# Altium footprint library WM355-Altium.PcbLib: 20 footprints (part 1 of 2)
Each footprint in its own frame and in the unit in brackets; x right, y up, seen from the top. Pads: shape width x height; smd on the part's side, far side on the other; paste and mask are expansions set on the pad; w line width, h text height; cw(c..) or ccw(c..) is an arc to the next point about the centre after c.
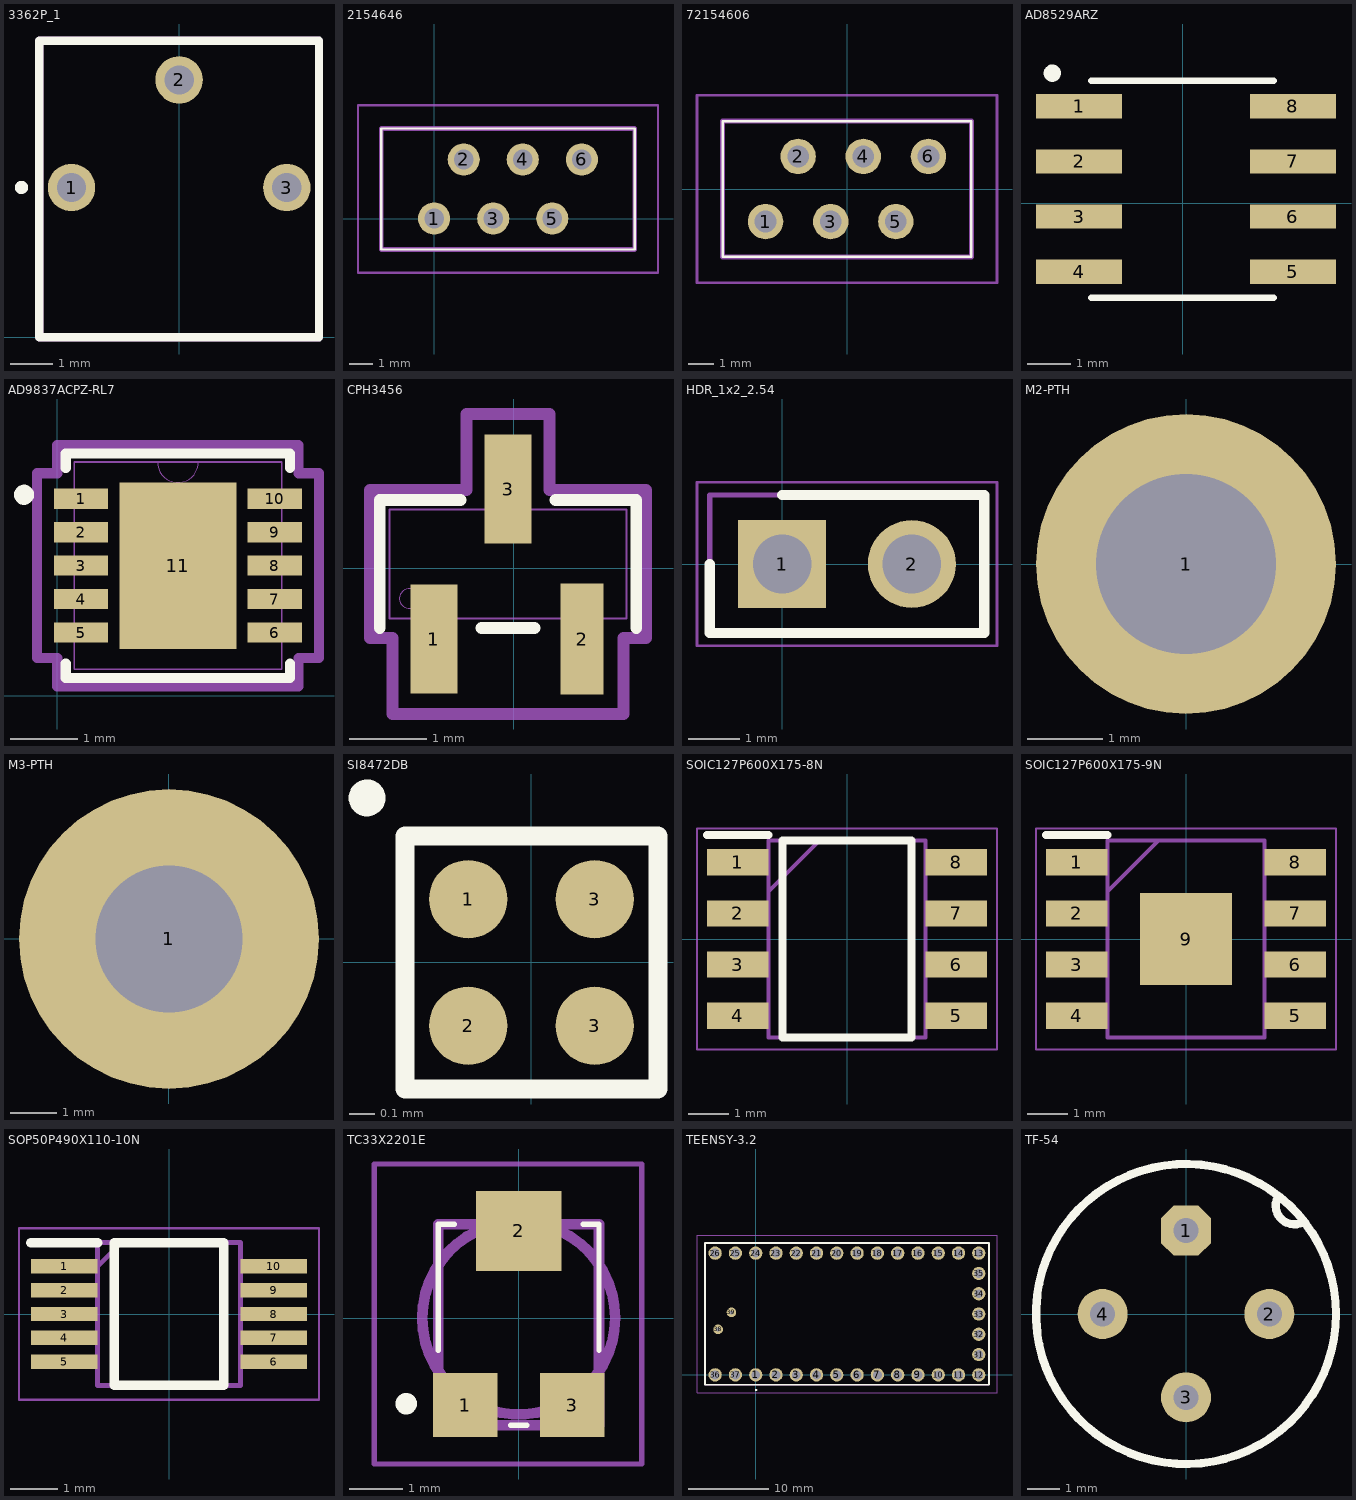
[diagram p0: the footprints below, top view; thin cyan lines are the x and y axes]

## 3362P_1 [mm]
pads (3):
  round 1.12 hole 0.69: 1(-2.54,3.53) 2(0,6.07) 3(2.54,3.53)
Top Overlay:
  circle w0.2: c-3.722,3.532 r0.057
  lines w0.2: -3.3,0 3.3,0 3.3,6.99 -3.3,6.99 -3.3,0
Mechanical 13:
  lines w0.2: -3.3,0 -3.3,6.99 3.3,6.99 3.3,0 -3.3,0
3D body "3362P-1-103LF.stp": height 4.65, standoff -4.85, extent -3.3,0.01 3.3,7

## 2154646 [mm]
pads (6):
  round 1.381 hole 0.85: 1(0,0) 2(1.27,2.54) 3(2.54,0) 4(3.81,2.54) 5(5.08,0) 6(6.35,2.54)
Top Overlay:
  lines w0.1: -2.275,-1.33 -2.275,3.87 8.625,3.87 8.625,-1.33 -2.275,-1.33
Mechanical 13:
  lines w0.2: -2.275,-1.33 -2.275,3.87 8.625,3.87 8.625,-1.33 -2.275,-1.33
Mechanical 15:
  lines w0.1: -3.275,-2.33 -3.275,4.87 9.625,4.87 9.625,-2.33 -3.275,-2.33
3D body "215464-6.stp": height 7.01, standoff -2.99, extent -2.22,-1.23 8.58,3.77

## 72154606 [mm]
pads (6):
  round 1.381 hole 0.85: 1(-3.175,-1.27) 2(-1.905,1.27) 3(-0.635,-1.27) 4(0.635,1.27) 5(1.905,-1.27) 6(3.175,1.27)
Top Overlay:
  lines w0.1: -4.85,-2.65 4.85,-2.65 4.85,2.65 -4.85,2.65 -4.85,-2.65
Mechanical 13:
  lines w0.2: -4.85,-2.65 4.85,-2.65 4.85,2.65 -4.85,2.65 -4.85,-2.65
Mechanical 15:
  lines w0.1: -5.85,-3.65 5.85,-3.65 5.85,3.65 -5.85,3.65 -5.85,-3.65
3D body "7-215460-6.stp": height 5.7, standoff -3.07, extent -4.775,-2.5 4.775,2.5

## AD8529ARZ [mil] "Op-amp"
pads (8):
  rect 78x22 smd paste+0 mask+0: 1(-93.89,88.07) 2(-93.89,38.07) 3(-93.89,-11.93) 4(-93.89,-61.93) 5(100.11,-61.93) 6(100.11,-11.93) 7(100.11,38.07) 8(100.11,88.07)
Top Overlay:
  circle w7.87: c-118.11,118.11 r3.94
  lines w6: -82.68,-85.63 82.68,-85.63 ; -82.68,111.22 82.68,111.22
3D body "R_8_ADI.step": height 69.09, standoff 0, extent -118.9,-85.43 125.12,111.57

## AD9837ACPZ-RL7 [mm]
pads (11):
  rect 0.813x0.3 smd paste+0 mask+0: 1(0.352,2.94) 2(0.352,2.44) 3(0.352,1.94) 4(0.352,1.44) 5(0.352,0.94) 6(3.248,0.94) 7(3.248,1.44) 8(3.248,1.94) 9(3.248,2.44) 10(3.248,2.94)
  rect 1.753x2.489 smd paste+0 mask+0: 11(1.8,1.94)
Top Overlay:
  circle w0.15: c-0.5,3 r0.075
  lines w0.152: 0.124,0.48 0.124,0.264 3.476,0.264 3.476,0.48 ; 0.124,3.4 0.124,3.616 3.476,3.616 3.476,3.4
Mechanical 13:
  lines w0: 1.495,3.489 ccw(c1.8,3.489) 2.105,3.489
  lines w0.025: 0.251,0.391 0.251,3.489 3.349,3.489 3.349,0.391 0.251,0.391
Mechanical 15:
  lines w0.152: -0.308,0.559 -0.003,0.559 -0.003,0.137 3.603,0.137 3.603,0.559 3.908,0.559 3.908,3.321 3.603,3.321 3.603,3.743 -0.003,3.743 -0.003,3.321 -0.308,3.321 -0.308,0.559
3D body "CP_10_9_ADI.step": height 0.79, standoff 0, extent 0.251,0.391 3.349,3.489

## CPH3456 [mm]
pads (3):
  rect 0.6x1.4 smd paste+0 mask+0: 1(-1.024,-0.91) 3(-0.071,1.02)
  rect 0.559x1.422 smd paste+0 mask+0: 2(0.881,-0.91)
Top Overlay:
  lines w0.152: -1.722,-0.77 -1.722,0.881 -0.683,0.881 ; -0.411,-0.77 0.269,-0.77 ; 0.541,0.881 1.58,0.881 1.58,-0.77
Mechanical 13:
  circle w0: c-1.341,-0.389 r0.127
  lines w0.025: -1.595,-0.643 -1.595,0.754 1.453,0.754 1.453,-0.643 -1.595,-0.643 ; -1.278,-1.266 -0.77,-1.266 -0.77,-0.643 -1.278,-0.643 -1.278,-1.266 ; -0.325,0.754 -0.325,1.376 0.183,1.376 0.183,0.754 -0.325,0.754 ; 0.627,-1.266 1.135,-1.266 1.135,-0.643 0.627,-0.643 0.627,-1.266
Mechanical 15:
  lines w0.152: -1.849,-0.897 -1.557,-0.897 -1.557,-1.875 1.415,-1.875 1.415,-0.897 1.707,-0.897 1.707,1.008 0.462,1.008 0.462,1.985 -0.604,1.985 -0.604,1.008 -1.849,1.008 -1.849,-0.897
3D body "SOT-23_ONS.step": height 1.12, standoff 0, extent -1.595,-1.266 1.453,1.376

## HDR_1x2_2.54 [mm] "2 Pin 0.1\" Header"
pads (2):
  rect 1.725x1.725 hole 1.15: 1(0,0)
  round 1.725 hole 1.15: 2(2.54,0)
Top Overlay:
  lines w0.2: -1.42,0 -1.42,-1.355 3.96,-1.355 3.96,1.355 0,1.355
Mechanical 13:
  lines w0.1: -1.42,-1.355 3.96,-1.355 3.96,1.355 -1.42,1.355 -1.42,-1.355
Mechanical 15:
  lines w0.05: -1.67,-1.605 4.21,-1.605 4.21,1.605 -1.67,1.605 -1.67,-1.605
3D body "10129378-902001BLF.stp": height 8.43, standoff -3.3, extent -1.27,-1.205 3.81,1.205

## M2-PTH [mm] "M2 Mounting Hole (Plated, Exposed Pad)"
pads (1):
  round 4 hole 2.4: 1(0,0)

## M3-PTH [mm] "M3 Mounting Hole (Plated, Exposed Pad)"
pads (1):
  oval 6.51x6.5 hole 3.2: 1(0,0)

## SI8472DB [mm] "N channel MOSFET"
pads (4):
  round 0.31 smd mask+0.05: 1(-0.25,0.25) 2(-0.25,-0.25) 3(0.25,-0.25) 3(0.25,0.25)
Top Overlay:
  circle w0.075: c-0.65,0.65 r0.035
  lines w0.075: -0.5,-0.5 0.5,-0.5 0.5,0.5 -0.5,0.5 -0.5,-0.5

## SOIC127P600X175-8N [mm]
pads (8):
  rect 1.525x0.65 smd: 1(-2.712,1.905) 2(-2.712,0.635) 3(-2.712,-0.635) 4(-2.712,-1.905) 5(2.712,-1.905) 6(2.712,-0.635) 7(2.712,0.635) 8(2.712,1.905)
Top Overlay:
  lines w0.2: -3.475,2.58 -1.95,2.58 ; -1.6,-2.45 -1.6,2.45 1.6,2.45 1.6,-2.45 -1.6,-2.45
Mechanical 13:
  lines w0.1: -1.95,1.18 -0.68,2.45 ; -1.95,-2.45 -1.95,2.45 1.95,2.45 1.95,-2.45 -1.95,-2.45
Mechanical 15:
  lines w0.05: -3.725,-2.75 -3.725,2.75 3.725,2.75 3.725,-2.75 -3.725,-2.75
3D body "NE555DR.stp": height 1.75, standoff 0, extent -3,-2.45 3,2.45

## SOIC127P600X175-9N [mm]
pads (9):
  rect 1.525x0.65 smd: 1(-2.712,1.905) 2(-2.712,0.635) 3(-2.712,-0.635) 4(-2.712,-1.905) 5(2.712,-1.905) 6(2.712,-0.635) 7(2.712,0.635) 8(2.712,1.905)
  rect 2.29x2.29 smd: 9(0,0)
Top Overlay:
  lines w0.2: -3.475,2.58 -1.95,2.58
Mechanical 13:
  lines w0.1: -1.95,1.18 -0.68,2.45 ; -1.95,-2.45 1.95,-2.45 1.95,2.45 -1.95,2.45 -1.95,-2.45
Mechanical 15:
  lines w0.05: -3.725,-2.75 3.725,-2.75 3.725,2.75 -3.725,2.75 -3.725,-2.75
3D body "AD8045ARDZ.stp": height 1.75, standoff 0, extent -3,-2.45 3,2.45

## SOP50P490X110-10N [mm]
pads (10):
  rect 1.4x0.3 smd mask+0.05: 1(-2.2,1) 2(-2.2,0.5) 3(-2.2,0) 4(-2.2,-0.5) 5(-2.2,-1) 6(2.2,-1) 7(2.2,-0.5) 8(2.2,0) 9(2.2,0.5) 10(2.2,1)
Top Overlay:
  lines w0.2: -2.9,1.5 -1.5,1.5 ; -1.15,-1.5 1.15,-1.5 1.15,1.5 -1.15,1.5 -1.15,-1.5
Mechanical 13:
  lines w0.1: -1.5,1 -1,1.5 ; -1.5,-1.5 1.5,-1.5 1.5,1.5 -1.5,1.5 -1.5,-1.5
Mechanical 15:
  lines w0.05: -3.15,-1.8 3.15,-1.8 3.15,1.8 -3.15,1.8 -3.15,-1.8
3D body "ADS1114BQDGSRQ1.stp": height 1.1, standoff 0, extent -2.463,-1.5 2.463,1.5

## TC33X2201E [mm]
pads (3):
  rect 1.2x1.2 smd: 1(-1,-1.625) 3(1,-1.625)
  rect 1.6x1.5 smd: 2(0,1.625)
Top Overlay:
  lines w0.1: -1.5,-0.6 -1.5,1.75 -1.2,1.75 ; -0.15,-2 0.15,-2 ; 1.2,1.75 1.5,1.75 1.5,-0.6
  lines w0.2: -2.1,-1.7 ccw(c-2.1,-1.6) -2.1,-1.5 ccw(c-2.1,-1.6) -2.1,-1.7
Mechanical 13:
  lines w0.2: -1.8,0 cw(c0,0) 1.8,0 cw(c0,0) -1.8,0 ; -1.5,-2 -1.5,1.75 1.5,1.75 1.5,-2 -1.5,-2
Mechanical 15:
  lines w0.1: -2.7,-2.725 -2.7,2.875 2.3,2.875 2.3,-2.725 -2.7,-2.725
3D body "TC33X-1-103E.STEP": height 1.2, standoff 0, extent -1.5,-1.9 1.5,1.9

## TEENSY-3.2 [mm]
pads (35):
  round 1.665 hole 1.11: 1(0,0) 2(2.54,0) 3(5.08,0) 4(7.62,0) 5(10.16,0) 6(12.7,0) 7(15.24,0) 8(17.78,0) 9(20.32,0) 10(22.86,0) 11(25.4,0) 12(27.94,0) 13(27.94,15.24) 14(25.4,15.24) 15(22.86,15.24) 16(20.32,15.24) 17(17.78,15.24) 18(15.24,15.24) 19(12.7,15.24) 20(10.16,15.24) 21(7.62,15.24) 22(5.08,15.24) 23(2.54,15.24) 24(0,15.24) 25(-2.54,15.24) 26(-5.08,15.24) 31(27.94,2.54) 32(27.94,5.08) 33(27.94,7.62) 34(27.94,10.16) 35(27.94,12.7) 36(-5.08,0) 37(-2.54,0)
  round 1.2 hole 0.5: 38(-4.7,5.7) 39(-3.04,7.83)
Top Overlay:
  lines w0.2: 0,-1.9 ccw(c0.05,-1.9) 0.1,-1.9 ; 0,-1.9 cw(c0.05,-1.9) 0.1,-1.9 ; 0,-1.9 ccw(c0.05,-1.9) 0.1,-1.9 ; -6.35,-1.26 29.22,-1.26 29.22,16.51 -6.35,16.51 -6.35,-1.26
Mechanical 13:
  lines w0.1: -6.35,-1.27 29.21,-1.27 29.21,16.51 -6.35,16.51 -6.35,-1.27
Mechanical 15:
  lines w0.1: -7.35,-2.27 30.22,-2.27 30.22,17.51 -7.35,17.51 -7.35,-2.27
3D body "Teensy 3.2.step": height 15.54, standoff -3, extent -7.688,-1.301 29.591,16.627

## TF-54 [mil] "TF-54 IC socket from Fischer Elektronik"
pads (4):
  oct 60x60 hole 30: 1(0,100)
  round 60 hole 30: 2(100,0) 3(0,-100) 4(-100,0)
Top Overlay:
  circle w10: c0,0 r180
  lines w10: 110,140 ccw(c130,130) 140,110
3D body "TF 54 v4.step": height 295.28, standoff -102.36, extent -202.75,-202.75 202.72,202.72